# Altium integrated library LTC4015.IntLib: 2 symbols
Pins are listed as number, name and electrical type; pins without a type are passive.

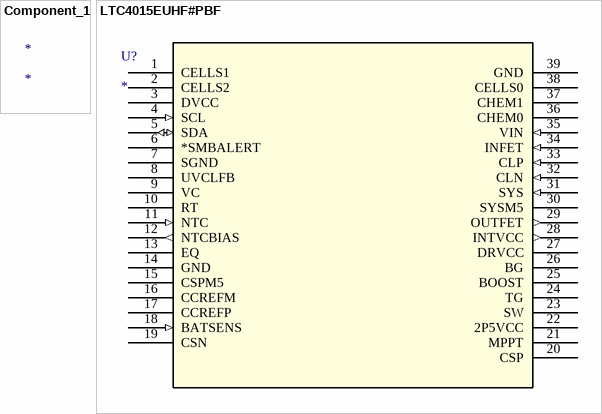
[diagram p0: symbols Component_1 to LTC4015EUHF#PBF]

## Component_1
designator *

## LTC4015EUHF#PBF
designator U?
Imported; Manufacturer_Part_Number: ltc4015euhf#pbf; Vendor: Linear Technology; Value: Value; Type: Type; RefDes: RefDes
footprint QFN-38_UHF
pins: 1 CELLS1, 2 CELLS2, 3 DVCC (power), 4 SCL (in), 5 SDA (io), 6 *SMBALERT, 7 SGND (power), 8 UVCLFB, 9 VC, 10 RT, 11 NTC (in), 12 NTCBIAS (out), 13 EQ, 14 GND (power), 15 CSPM5, 16 CCREFM, 17 CCREFP, 18 BATSENS (in), 19 CSN, 20 CSP, 21 MPPT, 22 2P5VCC, 23 SW, 24 TG, 25 BOOST, 26 BG, 27 DRVCC, 28 INTVCC (out), 29 OUTFET (out), 30 SYSM5, 31 SYS (in), 32 CLN (in), 33 CLP (in), 34 INFET (in), 35 VIN (in), 36 CHEM0, 37 CHEM1, 38 CELLS0, 39 GND (power)